# EAGLE library part MAX30101EFD+ (library graftel-internal-ic)
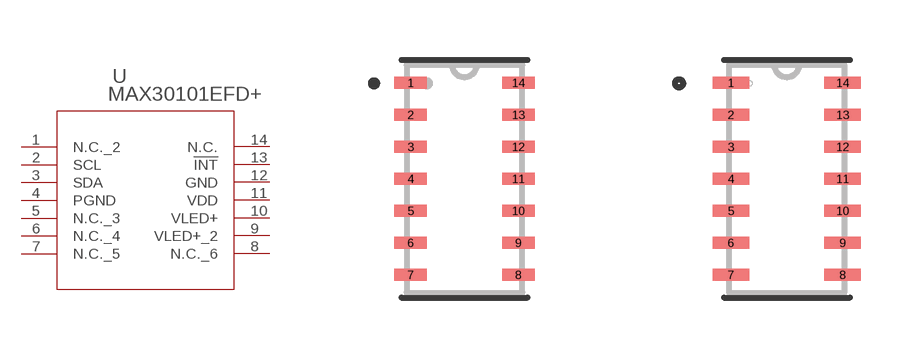
[diagram p95: symbol with the pads of 21-0880B_MXM; footprints 21-0880B_MXM, 21-0880B_MXM-M]

Designator prefix U

## MAX30101EFD+ (BUILT_BY: EMA_UL_Team; MANUFACTURER_PART_NUMBER: MAX30101EFD+; SOURCELIBRARY: Update_to_database_2021-01-13; VENDOR: Maxim Integrated Products)  [21-0880B_MXM]
1  N.C._2  nc
2  SCL  pas
3  SDA  pas
4  PGND  pas
5  N.C._3  nc
6  N.C._4  nc
7  N.C._5  nc
8  N.C._6  nc
9  VLED+_2  pas
10  VLED+  pas
11  VDD  pwr
12  GND  pas
13  !INT  pas
14  N.C.  nc

## MAX30101EFD+21-0880B_MXM-M (BUILT_BY: EMA_UL_Team; MANUFACTURER_PART_NUMBER: MAX30101EFD+; SOURCELIBRARY: Update_to_database_2021-01-13; VENDOR: Maxim Integrated Products)  [21-0880B_MXM-M]
Pads as for 21-0880B_MXM

## MAX30101EFD+21-0880B_MXM-L (BUILT_BY: EMA_UL_Team; MANUFACTURER_PART_NUMBER: MAX30101EFD+; SOURCELIBRARY: Update_to_database_2021-01-13; VENDOR: Maxim Integrated Products)  [21-0880B_MXM-L]
Pads as for 21-0880B_MXM

## Footprint 21-0880B_MXM (pad centres in mm)
smd 0.813 x 0.305: 1 -1.346,2.4; 2 -1.346,1.6; 3 -1.346,0.8; 4 -1.346,0; 5 -1.346,-0.8; 6 -1.346,-1.6; 7 -1.346,-2.4; 8 1.346,-2.4; 9 1.346,-1.6; 10 1.346,-0.8; 11 1.346,0; 12 1.346,0.8; 13 1.346,1.6; 14 1.346,2.4

## Footprint 21-0880B_MXM-M (pad centres in mm)
smd 0.914 x 0.305: 1 -1.397,2.4; 2 -1.397,1.6; 3 -1.397,0.8; 4 -1.397,0; 5 -1.397,-0.8; 6 -1.397,-1.6; 7 -1.397,-2.4; 8 1.397,-2.4; 9 1.397,-1.6; 10 1.397,-0.8; 11 1.397,0; 12 1.397,0.8; 13 1.397,1.6; 14 1.397,2.4

## Footprint 21-0880B_MXM-L (pad centres in mm)
smd 0.711 x 0.305: 1 -1.295,2.4; 2 -1.295,1.6; 3 -1.295,0.8; 4 -1.295,0; 5 -1.295,-0.8; 6 -1.295,-1.6; 7 -1.295,-2.4; 8 1.295,-2.4; 9 1.295,-1.6; 10 1.295,-0.8; 11 1.295,0; 12 1.295,0.8; 13 1.295,1.6; 14 1.295,2.4